# Altium footprint library SAM6.PcbLib: 1 footprints
Each footprint in its own frame and in the unit in brackets; x right, y up, seen from the top. Pads: shape width x height; smd on the part's side, far side on the other; paste and mask are expansions set on the pad; w line width, h text height; cw(c..) or ccw(c..) is an arc to the next point about the centre after c.
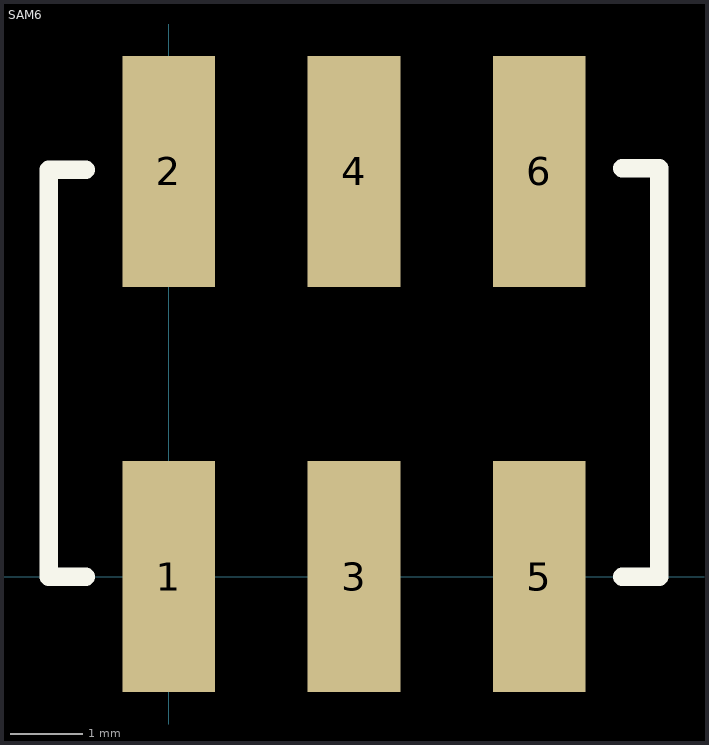
[diagram p0: the footprint, top view; thin cyan lines are the x and y axes]

## SAM6 [mm]
pads (6):
  rect 1.27x3.17 smd: 1(0,0) 2(0,5.563) 3(2.54,0) 4(2.54,5.563) 5(5.08,0) 6(5.08,5.563)
TopOverlay:
  lines w0.254: -1.143,0 -1.651,0 -1.651,5.581 -1.143,5.581 ; 6.223,0 6.731,0 6.731,2.642 6.731,5.606 6.223,5.606
  text "." at -1.905,-1.905 h1.78
3D body: height 9.66, standoff 0, extent -1.067,-0.849 6.153,6.437